# Altium footprint library Mill-Max.PcbLib: 1 footprints
Each footprint in its own frame and in the unit in brackets; x right, y up, seen from the top. Pads: shape width x height; smd on the part's side, far side on the other; paste and mask are expansions set on the pad; w line width, h text height; cw(c..) or ccw(c..) is an arc to the next point about the centre after c.
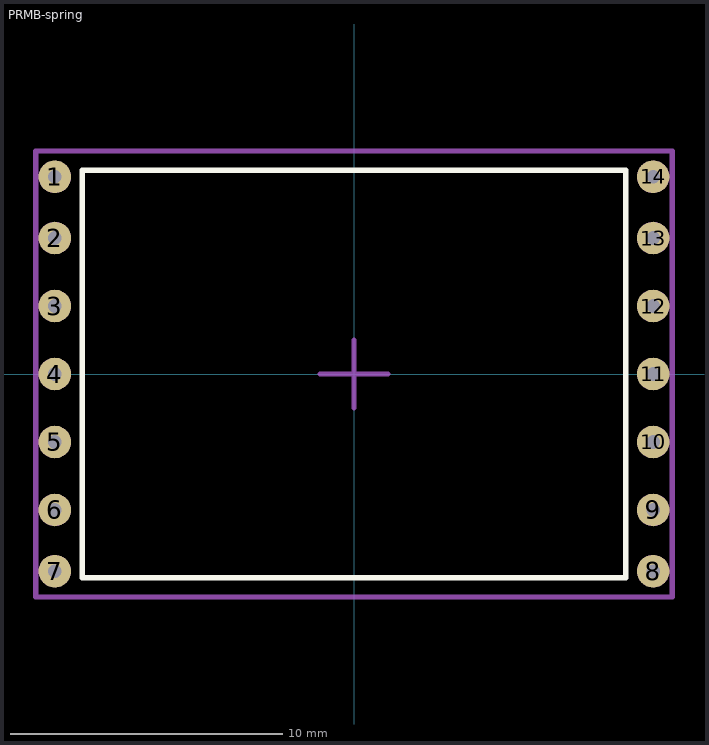
[diagram p0: the footprint, top view; thin cyan lines are the x and y axes]

## PRMB-spring [mm]
pads (14):
  round 1.2 hole 0.5 unplated: 1(-11,7.25) 2(-11,5) 3(-11,2.5) 4(-11,0) 5(-11,-2.5) 6(-11,-5) 7(-11,-7.25) 8(11,-7.25) 9(11,-5) 10(11,-2.5) 11(11,0) 12(11,2.5) 13(11,5) 14(11,7.25)
Top Overlay:
  lines w0.2: -10,-7.5 -10,7.5 10,7.5 10,-7.5 -10,-7.5
Mechanical 13:
  circle w0.1: c11,7.25 r0.545
  circle w0.1: c11,5 r0.545
  circle w0.1: c11,2.5 r0.545
  circle w0.1: c11,0 r0.545
  circle w0.1: c11,-2.5 r0.545
  circle w0.1: c11,-5 r0.545
  circle w0.1: c11,-7.25 r0.545
  circle w0.1: c-11,-7.25 r0.545
  circle w0.1: c-11,-5 r0.545
  circle w0.1: c-11,-2.5 r0.545
  circle w0.1: c-11,0 r0.545
  circle w0.1: c-11,2.5 r0.545
  circle w0.1: c-11,5 r0.545
  circle w0.1: c-11,7.25 r0.545
Mechanical 15:
  lines w0.2: -1.25,0 1.25,0 ; 0,-1.25 0,1.25 ; -11.7,-8.2 11.7,-8.2 11.7,8.2 -11.7,8.2 -11.7,-8.2
3D body "0985-0-15-20-71-14-11-0.stp": height 6.27, standoff -2.62, extent 10.456,6.705 11.544,7.791
3D body "0985-0-15-20-71-14-11-0.stp": height 6.27, standoff -2.62, extent 10.456,4.455 11.544,5.541
3D body "0985-0-15-20-71-14-11-0.stp": height 6.27, standoff -2.62, extent 10.456,1.955 11.544,3.041
3D body "0985-0-15-20-71-14-11-0.stp": height 6.27, standoff -2.62, extent 10.456,-0.545 11.544,0.541
3D body "0985-0-15-20-71-14-11-0.stp": height 6.27, standoff -2.62, extent 10.456,-3.045 11.544,-1.959
3D body "0985-0-15-20-71-14-11-0.stp": height 6.27, standoff -2.62, extent 10.456,-5.545 11.544,-4.459
3D body "0985-0-15-20-71-14-11-0.stp": height 6.27, standoff -2.62, extent 10.456,-7.795 11.544,-6.709
3D body "0985-0-15-20-71-14-11-0.stp": height 6.27, standoff -2.62, extent -11.544,-7.795 -10.456,-6.709
3D body "0985-0-15-20-71-14-11-0.stp": height 6.27, standoff -2.62, extent -11.544,-5.545 -10.456,-4.459
3D body "0985-0-15-20-71-14-11-0.stp": height 6.27, standoff -2.62, extent -11.544,-3.045 -10.456,-1.959
3D body "0985-0-15-20-71-14-11-0.stp": height 6.27, standoff -2.62, extent -11.544,-0.545 -10.456,0.541
3D body "0985-0-15-20-71-14-11-0.stp": height 6.27, standoff -2.62, extent -11.544,1.955 -10.456,3.041
3D body "0985-0-15-20-71-14-11-0.stp": height 6.27, standoff -2.62, extent -11.544,4.455 -10.456,5.541
3D body "0985-0-15-20-71-14-11-0.stp": height 6.27, standoff -2.62, extent -11.544,6.705 -10.456,7.791